# EAGLE library part W25N01GVZEIG/IT (library CPSS_IC)
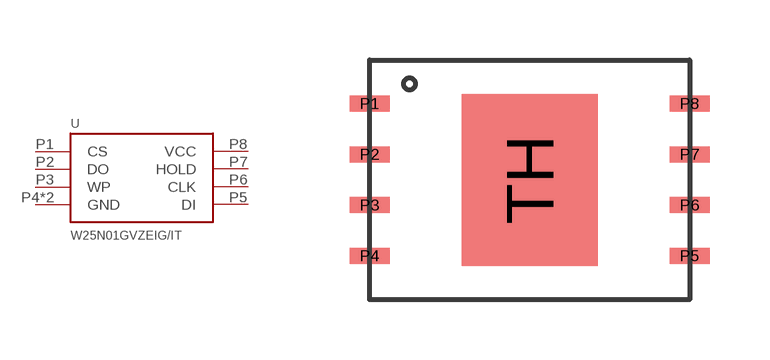
[diagram p1: symbol with the pads of WSON; footprint WSON]

Designator prefix -

## W25N01GVZEIG/IT  [WSON]
P1  CS
P2  DO
P3  WP
P4  GND
P5  DI
P6  CLK
P7  HOLD
P8  VCC
TH  GND

## Footprint WSON (pad centres in mm)
smd 1 x 0.4: P1 -4,1.905; P2 -4,0.635; P3 -4,-0.635; P4 -4,-1.905; P5 4,-1.905; P6 4,-0.635; P7 4,0.635; P8 4,1.905
smd 3.4 x 4.3: TH 0,0